# Altium schematic symbol library old_version.SchLib: 12 symbols
Pins are listed as number, name and electrical type; pins without a type are passive.

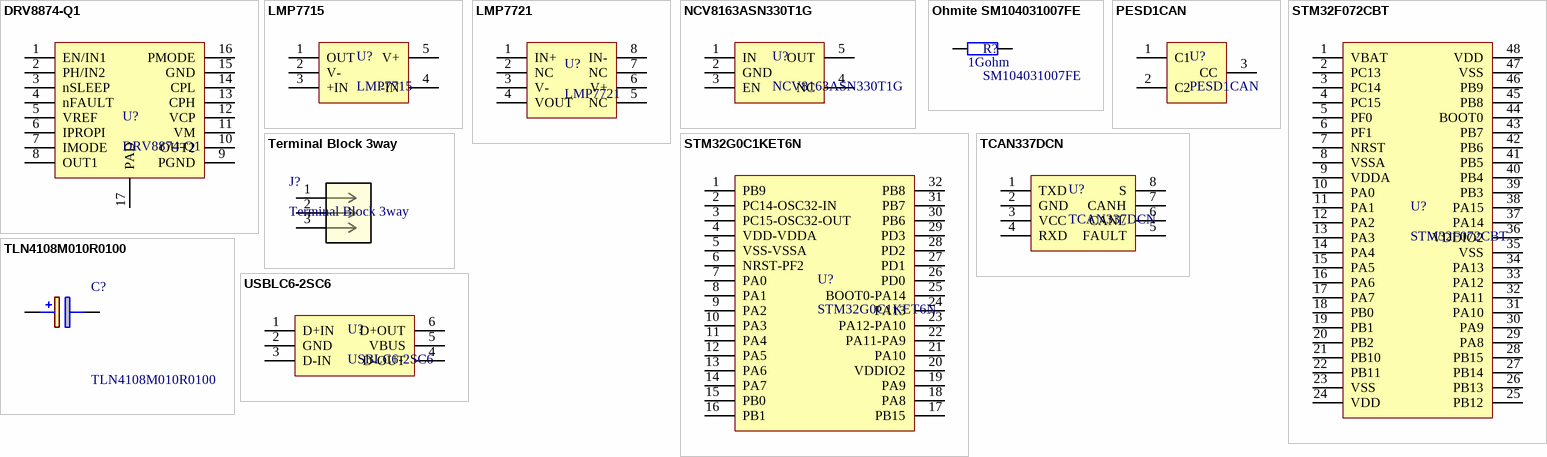
[diagram p0: symbols DRV8874-Q1 to USBLC6-2SC6]

## DRV8874-Q1
designator U?
brushed DC motor driver; Supplier 1: Mouser; Supplier Part Number 1: 595-DRV8874QPWPRQ1
footprint DRV8874-Q1 (TSOP, 16-Leads, Body 5,00x4,40mm, Pitch 0,65mm, Thermal Pad 5,00x3,40mm, IPC Medium Density)
pins: 1 EN/IN1, 2 PH/IN2, 3 nSLEEP, 4 nFAULT, 5 VREF, 6 IPROPI, 7 IMODE, 8 OUT1, 9 PGND, 10 OUT2, 11 VM, 12 VCP, 13 CPH, 14 CPL, 15 GND, 16 PMODE, 17 PAD

## LMP7715
designator U?
Precision, 17 MHz, Low Noise, CMOS Input Amplifier
footprint LMP7715 (SOT23, 5-Leads, Body 2,90x2,80mm, Pitch 0,95mm, IPC Low Density)
pins: 1 OUT, 2 V-, 3 +IN, 4 -IN, 5 V+

## LMP7721
designator U?
3-femtoampere input bias current precision amplifier
footprint LMP7721 (SOIC, 8-Leads, Body 4,91x3,90mm, Pitch 1,27mm, IPC Low Density)
pins: 1 IN+, 2 NC, 3 V-, 4 VOUT, 5 NC, 6 V+, 7 NC, 8 IN-

## NCV8163ASN330T1G
designator U?
3V3 LDO; Supplier 1: Arrow Electronics; Supplier Part Number 1: NCV8163ASN330T1G
footprint NCV8163ASN330T1G (TSOP, 5-Leads, Body 3,00x1,50mm, Pitch 0,95mm, IPC Medium Density)
pins: 1 IN, 2 GND, 3 EN, 4 NC, 5 OUT

## Ohmite SM104031007FE
designator R?, comment SM104031007FE  Resistance: 1Gohm
Ohmite SM104031007FE 1Gohm through hole resistor
footprint OHMITE_SM104031007FE (Ohmite SM104031007FE 1Gohm through hole resistor)
pins: 1, 2

## PESD1CAN
designator U?
CAN ESD protection; Supplier 1: Future Electronics; Supplier Part Number 1: 6297154
footprint PESD1CAN (SOT23, 3-Leads, Body 2,90x2,30mm, Pitch 0,95mm, IPC Medium Density)
pins: 1 C1, 2 C2, 3 CC

## STM32F072CBT
designator U?
STM32 MCU; Supplier 1: Mouser; Supplier Part Number 1: 511-STM32F072CBT6TR
footprint STM32F072CBT (TSQFP, 48-Leads, Body 7,00x7,00mm, Pitch 0,50mm, IPC Low Density)
pins: 1 VBAT, 2 PC13, 3 PC14, 4 PC15, 5 PF0, 6 PF1, 7 NRST, 8 VSSA, 9 VDDA, 10 PA0, 11 PA1, 12 PA2, 13 PA3, 14 PA4, 15 PA5, 16 PA6, 17 PA7, 18 PB0, 19 PB1, 20 PB2, 21 PB10, 22 PB11, 23 VSS, 24 VDD, 25 PB12, 26 PB13, 27 PB14, 28 PB15, 29 PA8, 30 PA9, 31 PA10, 32 PA11, 33 PA12, 34 PA13, 35 VSS, 36 VDDIO2, 37 PA14, 38 PA15, 39 PB3, 40 PB4, 41 PB5, 42 PB6, 43 PB7, 44 BOOT0, 45 PB8, 46 PB9, 47 VSS, 48 VDD

## STM32G0C1KET6N
designator U?
STM32 MCU; Supplier 1: Mouser; Supplier Part Number 1: 511-STM32G0C1KET6
footprint STM32G0C1KET6N (TQFP, 32-Leads, Body 7,00x7,00mm, Pitch 0,80mm, IPC Low Density)
pins: 1 PB9, 2 PC14-OSC32-IN, 3 PC15-OSC32-OUT, 4 VDD-VDDA, 5 VSS-VSSA, 6 NRST-PF2, 7 PA0, 8 PA1, 9 PA2, 10 PA3, 11 PA4, 12 PA5, 13 PA6, 14 PA7, 15 PB0, 16 PB1, 17 PB15, 18 PA8, 19 PA9, 20 VDDIO2, 21 PA10, 22 PA11-PA9, 23 PA12-PA10, 24 PA13, 25 BOOT0-PA14, 26 PD0, 27 PD1, 28 PD2, 29 PD3, 30 PB6, 31 PB7, 32 PB8

## TCAN337DCN
designator U?
CAN physical; Supplier 1: Mouser; Supplier Part Number 1: 595-TCAN337DCNT
footprint TCAN337DCN
pins: 1 TXD, 2 GND, 3 VCC, 4 RXD, 5 FAULT, 6 CANL, 7 CANH, 8 S

## Terminal Block 3way
designator J?
3-way wire to board terminal block
footprint TERMINAL_BLOCK_5mm_3way (Terminal block 5mm 3way)
footprint TERMINAL_BLOCK_2.5MM_3WAY (Terminal block 2.5mm 3way)
pins: 1, 2, 3

## TLN4108M010R0100
designator C?
Tantalum Capacitor, Solid SMD, 10V, 1000uF, 20%, ESR=100 mOhm; Manufacturer_Name: Kyocera AVX; Geometry.Height: 2mm; Mouser Part Number: 581-TLN4108M010R0100; Mouser Price/Stock: https://www.mouser.co.uk/ProductDetail/KYOCERA-AVX/TLN4108M010R0100?qs=W1ya688zOSyxaaKQ%252BLXjPA%3D%3D; Manufacturer_Part_Number: TLN4108M010R0100; Datasheet Link: https://datasheets.kyocera-avx.com/catalogue_TLN_PulseCap.pdf
footprint TLN4108M010R0100
pins: 1 +, 2 -

## USBLC6-2SC6
designator U?
USB ESD protection; Supplier 1: Mouser; Supplier Part Number 1: 511-USBLC6-2SC6
footprint USBLC6-2SC6 (SOT23, 6-Leads, Body 2,93x2,80mm, Pitch 0,95mm, IPC Medium Density)
pins: 1 D+IN, 2 GND, 3 D-IN, 4 D-OUT, 5 VBUS, 6 D+OUT